# Altium footprint library Connector_FFC-FPC.PcbLib: 184 footprints (part 11 of 12)
Each footprint in its own frame and in the unit in brackets; x right, y up, seen from the top. Pads: shape width x height; smd on the part's side, far side on the other; paste and mask are expansions set on the pad; w line width, h text height; cw(c..) or ccw(c..) is an arc to the next point about the centre after c.
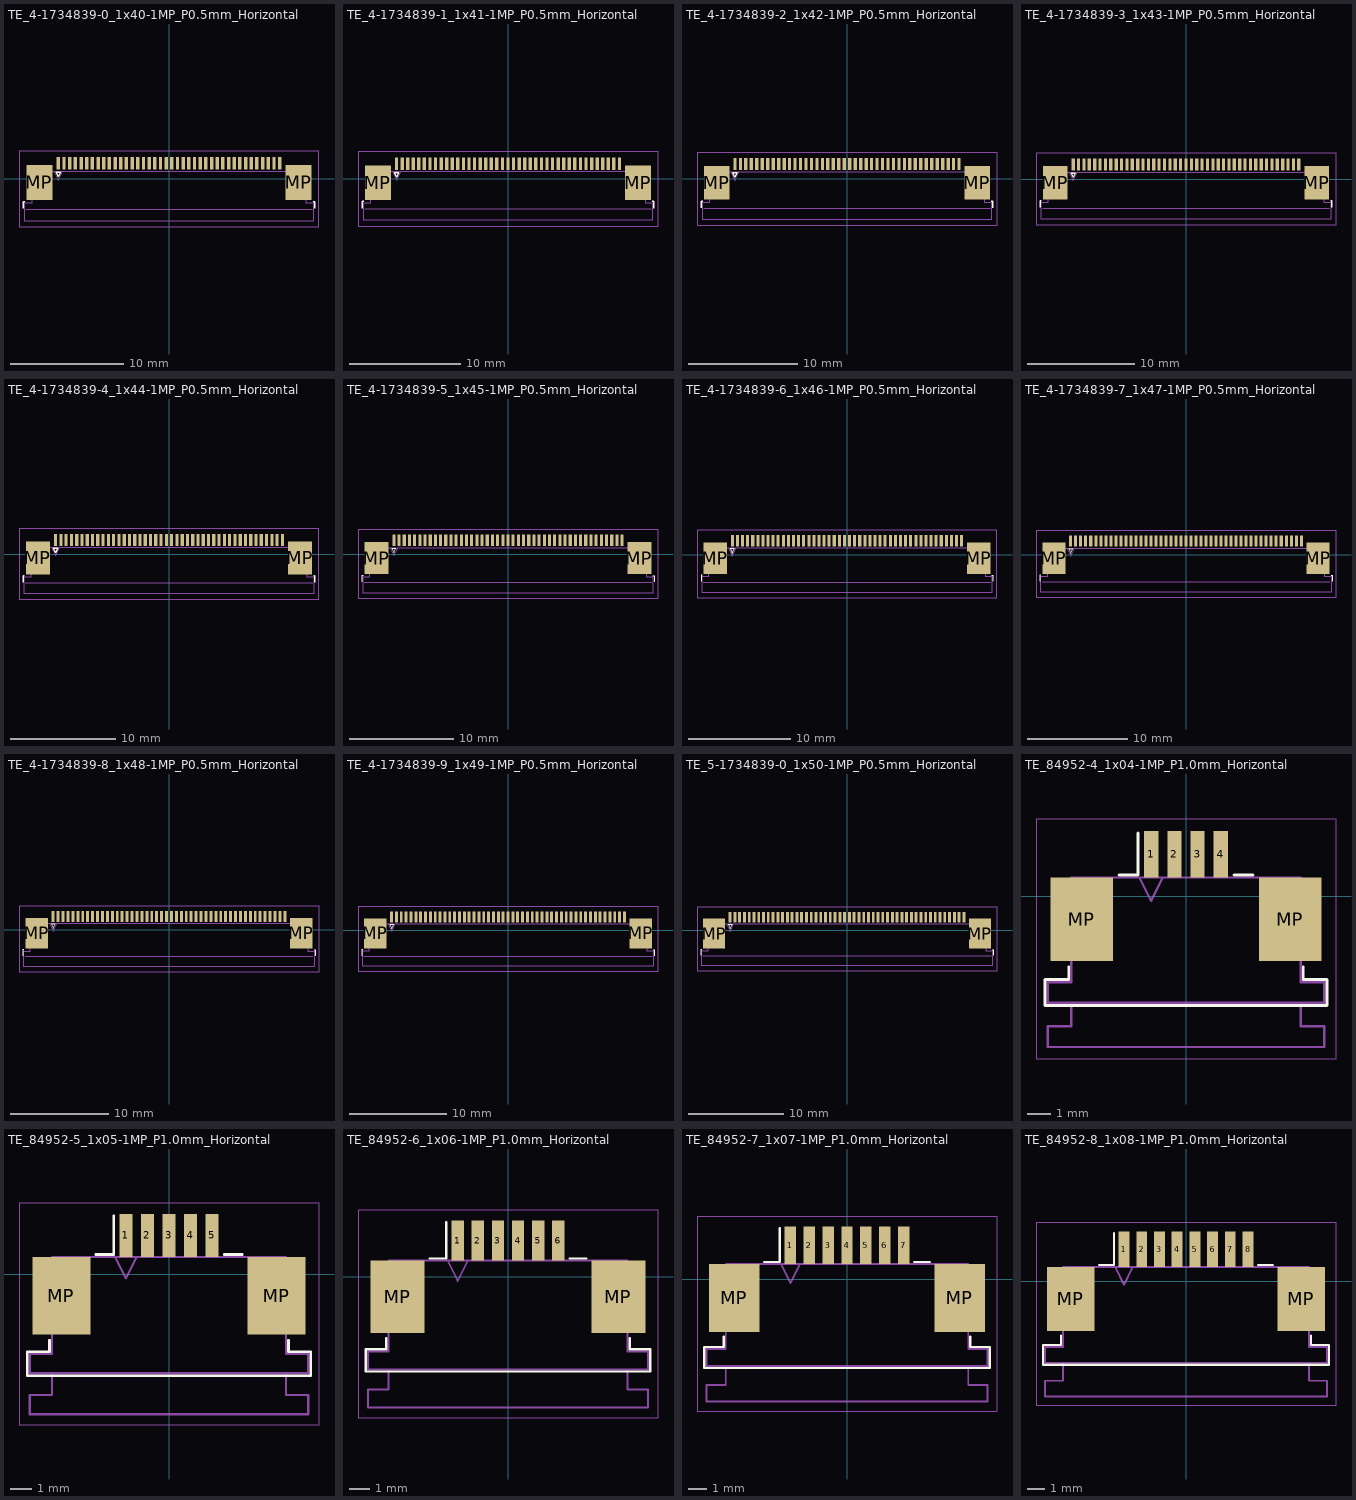
[diagram p10: the footprints below, top view; thin cyan lines are the x and y axes]

## TE_4-1734839-0_1x40-1MP_P0.5mm_Horizontal [mm]
pads (42):
  rect 0.3x1.1 smd: 1(-9.75,1.35) 2(-9.25,1.35) 3(-8.75,1.35) 4(-8.25,1.35) 5(-7.75,1.35) 6(-7.25,1.35) 7(-6.75,1.35) 8(-6.25,1.35) 9(-5.75,1.35) 10(-5.25,1.35) 11(-4.75,1.35) 12(-4.25,1.35) 13(-3.75,1.35) 14(-3.25,1.35) 15(-2.75,1.35) 16(-2.25,1.35) 17(-1.75,1.35) 18(-1.25,1.35) 19(-0.75,1.35) 20(-0.25,1.35) 21(0.25,1.35) 22(0.75,1.35) 23(1.25,1.35) 24(1.75,1.35) 25(2.25,1.35) 26(2.75,1.35) 27(3.25,1.35) 28(3.75,1.35) 29(4.25,1.35) 30(4.75,1.35) 31(5.25,1.35) 32(5.75,1.35) 33(6.25,1.35) 34(6.75,1.35) 35(7.25,1.35) 36(7.75,1.35) 37(8.25,1.35) 38(8.75,1.35) 39(9.25,1.35) 40(9.75,1.35)
  rect 2.3x3.1 smd: MP(-11.42,-0.35) MP(11.42,-0.35)
F.SilkS:
  lines w0.12: -12.825,-2.64 -12.825,-2.04 -12.715,-2.04 ; 12.715,-2.04 12.825,-2.04 12.825,-2.64 ; -9.95,0.55 -9.75,0.15 -9.55,0.55 -9.95,0.55
Dwgs.User:
  lines w0.1: -12.605,-2.75 12.605,-2.75
F.CrtYd:
  lines w0.05: -13.22,-4.25 -13.22,2.4 13.22,2.4 13.22,-4.25 -13.22,-4.25
F.Fab:
  lines w0.1: -10.15,0.65 -9.75,-0.15 -9.35,0.65 ; -12.715,-3.75 12.715,-3.75 12.715,-2.15 12.06,-2.15 12.06,0.65 -12.06,0.65 -12.06,-2.15 -12.715,-2.15 -12.715,-3.75
  text "'.Designator'" at -4.047,-2.39 h1

## TE_4-1734839-1_1x41-1MP_P0.5mm_Horizontal [mm]
pads (43):
  rect 0.3x1.1 smd: 1(-10,1.35) 2(-9.5,1.35) 3(-9,1.35) 4(-8.5,1.35) 5(-8,1.35) 6(-7.5,1.35) 7(-7,1.35) 8(-6.5,1.35) 9(-6,1.35) 10(-5.5,1.35) 11(-5,1.35) 12(-4.5,1.35) 13(-4,1.35) 14(-3.5,1.35) 15(-3,1.35) 16(-2.5,1.35) 17(-2,1.35) 18(-1.5,1.35) 19(-1,1.35) 20(-0.5,1.35) 21(0,1.35) 22(0.5,1.35) 23(1,1.35) 24(1.5,1.35) 25(2,1.35) 26(2.5,1.35) 27(3,1.35) 28(3.5,1.35) 29(4,1.35) 30(4.5,1.35) 31(5,1.35) 32(5.5,1.35) 33(6,1.35) 34(6.5,1.35) 35(7,1.35) 36(7.5,1.35) 37(8,1.35) 38(8.5,1.35) 39(9,1.35) 40(9.5,1.35) 41(10,1.35)
  rect 2.3x3.1 smd: MP(-11.67,-0.35) MP(11.67,-0.35)
F.SilkS:
  lines w0.12: -13.075,-2.64 -13.075,-2.04 -12.965,-2.04 ; 12.965,-2.04 13.075,-2.04 13.075,-2.64 ; -10.2,0.55 -9.8,0.55 -10,0.15 -10.2,0.55
Dwgs.User:
  lines w0.1: -12.855,-2.75 12.855,-2.75
F.CrtYd:
  lines w0.05: -13.46,-4.25 -13.46,2.4 13.46,2.4 13.46,-4.25 -13.46,-4.25
F.Fab:
  lines w0.1: -10.4,0.65 -10,-0.15 -9.6,0.65 ; -12.965,-3.75 -12.965,-2.15 -12.31,-2.15 -12.31,0.65 12.31,0.65 12.31,-2.15 12.965,-2.15 12.965,-3.75 -12.965,-3.75
  text "'.Designator'" at -4.047,-2.39 h1

## TE_4-1734839-2_1x42-1MP_P0.5mm_Horizontal [mm]
pads (44):
  rect 0.3x1.1 smd: 1(-10.25,1.35) 2(-9.75,1.35) 3(-9.25,1.35) 4(-8.75,1.35) 5(-8.25,1.35) 6(-7.75,1.35) 7(-7.25,1.35) 8(-6.75,1.35) 9(-6.25,1.35) 10(-5.75,1.35) 11(-5.25,1.35) 12(-4.75,1.35) 13(-4.25,1.35) 14(-3.75,1.35) 15(-3.25,1.35) 16(-2.75,1.35) 17(-2.25,1.35) 18(-1.75,1.35) 19(-1.25,1.35) 20(-0.75,1.35) 21(-0.25,1.35) 22(0.25,1.35) 23(0.75,1.35) 24(1.25,1.35) 25(1.75,1.35) 26(2.25,1.35) 27(2.75,1.35) 28(3.25,1.35) 29(3.75,1.35) 30(4.25,1.35) 31(4.75,1.35) 32(5.25,1.35) 33(5.75,1.35) 34(6.25,1.35) 35(6.75,1.35) 36(7.25,1.35) 37(7.75,1.35) 38(8.25,1.35) 39(8.75,1.35) 40(9.25,1.35) 41(9.75,1.35) 42(10.25,1.35)
  rect 2.3x3.1 smd: MP(-11.92,-0.35) MP(11.92,-0.35)
F.SilkS:
  lines w0.12: -13.325,-2.64 -13.325,-2.04 -13.215,-2.04 ; 13.215,-2.04 13.325,-2.04 13.325,-2.64 ; -10.45,0.55 -10.05,0.55 -10.25,0.15 -10.45,0.55
Dwgs.User:
  lines w0.1: -13.105,-2.75 13.105,-2.75
F.CrtYd:
  lines w0.05: -13.72,-4.25 13.72,-4.25 13.72,2.4 -13.72,2.4 -13.72,-4.25
F.Fab:
  lines w0.1: -10.65,0.65 -10.25,-0.15 -9.85,0.65 ; -13.215,-3.75 -13.215,-2.15 -12.56,-2.15 -12.56,0.65 12.56,0.65 12.56,-2.15 13.215,-2.15 13.215,-3.75 -13.215,-3.75
  text "'.Designator'" at -4.047,-2.39 h1

## TE_4-1734839-3_1x43-1MP_P0.5mm_Horizontal [mm]
pads (45):
  rect 0.3x1.1 smd: 1(-10.5,1.35) 2(-10,1.35) 3(-9.5,1.35) 4(-9,1.35) 5(-8.5,1.35) 6(-8,1.35) 7(-7.5,1.35) 8(-7,1.35) 9(-6.5,1.35) 10(-6,1.35) 11(-5.5,1.35) 12(-5,1.35) 13(-4.5,1.35) 14(-4,1.35) 15(-3.5,1.35) 16(-3,1.35) 17(-2.5,1.35) 18(-2,1.35) 19(-1.5,1.35) 20(-1,1.35) 21(-0.5,1.35) 22(0,1.35) 23(0.5,1.35) 24(1,1.35) 25(1.5,1.35) 26(2,1.35) 27(2.5,1.35) 28(3,1.35) 29(3.5,1.35) 30(4,1.35) 31(4.5,1.35) 32(5,1.35) 33(5.5,1.35) 34(6,1.35) 35(6.5,1.35) 36(7,1.35) 37(7.5,1.35) 38(8,1.35) 39(8.5,1.35) 40(9,1.35) 41(9.5,1.35) 42(10,1.35) 43(10.5,1.35)
  rect 2.3x3.1 smd: MP(-12.17,-0.35) MP(12.17,-0.35)
F.SilkS:
  lines w0.12: -13.575,-2.64 -13.575,-2.04 -13.465,-2.04 ; 13.465,-2.04 13.575,-2.04 13.575,-2.64 ; -10.7,0.55 -10.3,0.55 -10.5,0.15 -10.7,0.55
Dwgs.User:
  lines w0.1: -13.355,-2.75 13.355,-2.75
F.CrtYd:
  lines w0.05: -13.96,-4.25 13.96,-4.25 13.96,2.4 -13.96,2.4 -13.96,-4.25
F.Fab:
  lines w0.1: -10.9,0.65 -10.5,-0.15 -10.1,0.65 ; -13.465,-3.75 13.465,-3.75 13.465,-2.15 12.81,-2.15 12.81,0.65 -12.81,0.65 -12.81,-2.15 -13.465,-2.15 -13.465,-3.75
  text "'.Designator'" at -4.047,-2.39 h1

## TE_4-1734839-4_1x44-1MP_P0.5mm_Horizontal [mm]
pads (46):
  rect 0.3x1.1 smd: 1(-10.75,1.35) 2(-10.25,1.35) 3(-9.75,1.35) 4(-9.25,1.35) 5(-8.75,1.35) 6(-8.25,1.35) 7(-7.75,1.35) 8(-7.25,1.35) 9(-6.75,1.35) 10(-6.25,1.35) 11(-5.75,1.35) 12(-5.25,1.35) 13(-4.75,1.35) 14(-4.25,1.35) 15(-3.75,1.35) 16(-3.25,1.35) 17(-2.75,1.35) 18(-2.25,1.35) 19(-1.75,1.35) 20(-1.25,1.35) 21(-0.75,1.35) 22(-0.25,1.35) 23(0.25,1.35) 24(0.75,1.35) 25(1.25,1.35) 26(1.75,1.35) 27(2.25,1.35) 28(2.75,1.35) 29(3.25,1.35) 30(3.75,1.35) 31(4.25,1.35) 32(4.75,1.35) 33(5.25,1.35) 34(5.75,1.35) 35(6.25,1.35) 36(6.75,1.35) 37(7.25,1.35) 38(7.75,1.35) 39(8.25,1.35) 40(8.75,1.35) 41(9.25,1.35) 42(9.75,1.35) 43(10.25,1.35) 44(10.75,1.35)
  rect 2.3x3.1 smd: MP(-12.42,-0.35) MP(12.42,-0.35)
F.SilkS:
  lines w0.12: -13.825,-2.64 -13.825,-2.04 -13.715,-2.04 ; 13.715,-2.04 13.825,-2.04 13.825,-2.64 ; -10.95,0.55 -10.75,0.15 -10.55,0.55 -10.95,0.55
Dwgs.User:
  lines w0.1: -13.605,-2.75 13.605,-2.75
F.CrtYd:
  lines w0.05: -14.22,-4.25 -14.22,2.4 14.22,2.4 14.22,-4.25 -14.22,-4.25
F.Fab:
  lines w0.1: -11.15,0.65 -10.75,-0.15 -10.35,0.65 ; -13.715,-3.75 13.715,-3.75 13.715,-2.15 13.06,-2.15 13.06,0.65 -13.06,0.65 -13.06,-2.15 -13.715,-2.15 -13.715,-3.75
  text "'.Designator'" at -4.047,-2.39 h1

## TE_4-1734839-5_1x45-1MP_P0.5mm_Horizontal [mm]
pads (47):
  rect 0.3x1.1 smd: 1(-11,1.35) 2(-10.5,1.35) 3(-10,1.35) 4(-9.5,1.35) 5(-9,1.35) 6(-8.5,1.35) 7(-8,1.35) 8(-7.5,1.35) 9(-7,1.35) 10(-6.5,1.35) 11(-6,1.35) 12(-5.5,1.35) 13(-5,1.35) 14(-4.5,1.35) 15(-4,1.35) 16(-3.5,1.35) 17(-3,1.35) 18(-2.5,1.35) 19(-2,1.35) 20(-1.5,1.35) 21(-1,1.35) 22(-0.5,1.35) 23(0,1.35) 24(0.5,1.35) 25(1,1.35) 26(1.5,1.35) 27(2,1.35) 28(2.5,1.35) 29(3,1.35) 30(3.5,1.35) 31(4,1.35) 32(4.5,1.35) 33(5,1.35) 34(5.5,1.35) 35(6,1.35) 36(6.5,1.35) 37(7,1.35) 38(7.5,1.35) 39(8,1.35) 40(8.5,1.35) 41(9,1.35) 42(9.5,1.35) 43(10,1.35) 44(10.5,1.35) 45(11,1.35)
  rect 2.3x3.1 smd: MP(-12.67,-0.35) MP(12.67,-0.35)
F.SilkS:
  lines w0.12: -14.075,-2.64 -14.075,-2.04 -13.965,-2.04 ; 13.965,-2.04 14.075,-2.04 14.075,-2.64 ; -11.2,0.55 -11,0.15 -10.8,0.55 -11.2,0.55
Dwgs.User:
  lines w0.1: -13.855,-2.75 13.855,-2.75
F.CrtYd:
  lines w0.05: -14.46,-4.25 14.46,-4.25 14.46,2.4 -14.46,2.4 -14.46,-4.25
F.Fab:
  lines w0.1: -11.4,0.65 -11,-0.15 -10.6,0.65 ; -13.965,-3.75 13.965,-3.75 13.965,-2.15 13.31,-2.15 13.31,0.65 -13.31,0.65 -13.31,-2.15 -13.965,-2.15 -13.965,-3.75
  text "'.Designator'" at -4.047,-2.39 h1

## TE_4-1734839-6_1x46-1MP_P0.5mm_Horizontal [mm]
pads (48):
  rect 0.3x1.1 smd: 1(-11.25,1.35) 2(-10.75,1.35) 3(-10.25,1.35) 4(-9.75,1.35) 5(-9.25,1.35) 6(-8.75,1.35) 7(-8.25,1.35) 8(-7.75,1.35) 9(-7.25,1.35) 10(-6.75,1.35) 11(-6.25,1.35) 12(-5.75,1.35) 13(-5.25,1.35) 14(-4.75,1.35) 15(-4.25,1.35) 16(-3.75,1.35) 17(-3.25,1.35) 18(-2.75,1.35) 19(-2.25,1.35) 20(-1.75,1.35) 21(-1.25,1.35) 22(-0.75,1.35) 23(-0.25,1.35) 24(0.25,1.35) 25(0.75,1.35) 26(1.25,1.35) 27(1.75,1.35) 28(2.25,1.35) 29(2.75,1.35) 30(3.25,1.35) 31(3.75,1.35) 32(4.25,1.35) 33(4.75,1.35) 34(5.25,1.35) 35(5.75,1.35) 36(6.25,1.35) 37(6.75,1.35) 38(7.25,1.35) 39(7.75,1.35) 40(8.25,1.35) 41(8.75,1.35) 42(9.25,1.35) 43(9.75,1.35) 44(10.25,1.35) 45(10.75,1.35) 46(11.25,1.35)
  rect 2.3x3.1 smd: MP(-12.92,-0.35) MP(12.92,-0.35)
F.SilkS:
  lines w0.12: -14.325,-2.64 -14.325,-2.04 -14.215,-2.04 ; 14.215,-2.04 14.325,-2.04 14.325,-2.64 ; -11.45,0.55 -11.25,0.15 -11.05,0.55 -11.45,0.55
Dwgs.User:
  lines w0.1: -14.105,-2.75 14.105,-2.75
F.CrtYd:
  lines w0.05: -14.72,-4.25 -14.72,2.4 14.72,2.4 14.72,-4.25 -14.72,-4.25
F.Fab:
  lines w0.1: -11.65,0.65 -11.25,-0.15 -10.85,0.65 ; -14.215,-3.75 -14.215,-2.15 -13.56,-2.15 -13.56,0.65 13.56,0.65 13.56,-2.15 14.215,-2.15 14.215,-3.75 -14.215,-3.75
  text "'.Designator'" at -4.047,-2.39 h1

## TE_4-1734839-7_1x47-1MP_P0.5mm_Horizontal [mm]
pads (49):
  rect 0.3x1.1 smd: 1(-11.5,1.35) 2(-11,1.35) 3(-10.5,1.35) 4(-10,1.35) 5(-9.5,1.35) 6(-9,1.35) 7(-8.5,1.35) 8(-8,1.35) 9(-7.5,1.35) 10(-7,1.35) 11(-6.5,1.35) 12(-6,1.35) 13(-5.5,1.35) 14(-5,1.35) 15(-4.5,1.35) 16(-4,1.35) 17(-3.5,1.35) 18(-3,1.35) 19(-2.5,1.35) 20(-2,1.35) 21(-1.5,1.35) 22(-1,1.35) 23(-0.5,1.35) 24(0,1.35) 25(0.5,1.35) 26(1,1.35) 27(1.5,1.35) 28(2,1.35) 29(2.5,1.35) 30(3,1.35) 31(3.5,1.35) 32(4,1.35) 33(4.5,1.35) 34(5,1.35) 35(5.5,1.35) 36(6,1.35) 37(6.5,1.35) 38(7,1.35) 39(7.5,1.35) 40(8,1.35) 41(8.5,1.35) 42(9,1.35) 43(9.5,1.35) 44(10,1.35) 45(10.5,1.35) 46(11,1.35) 47(11.5,1.35)
  rect 2.3x3.1 smd: MP(-13.17,-0.35) MP(13.17,-0.35)
F.SilkS:
  lines w0.12: -14.575,-2.64 -14.575,-2.04 -14.465,-2.04 ; 14.465,-2.04 14.575,-2.04 14.575,-2.64 ; -11.7,0.55 -11.3,0.55 -11.5,0.15 -11.7,0.55
Dwgs.User:
  lines w0.1: -14.355,-2.75 14.355,-2.75
F.CrtYd:
  lines w0.05: -14.96,-4.25 -14.96,2.4 14.96,2.4 14.96,-4.25 -14.96,-4.25
F.Fab:
  lines w0.1: -11.9,0.65 -11.5,-0.15 -11.1,0.65 ; -14.465,-3.75 14.465,-3.75 14.465,-2.15 13.81,-2.15 13.81,0.65 -13.81,0.65 -13.81,-2.15 -14.465,-2.15 -14.465,-3.75
  text "'.Designator'" at -4.047,-2.39 h1

## TE_4-1734839-8_1x48-1MP_P0.5mm_Horizontal [mm]
pads (50):
  rect 0.3x1.1 smd: 1(-11.75,1.35) 2(-11.25,1.35) 3(-10.75,1.35) 4(-10.25,1.35) 5(-9.75,1.35) 6(-9.25,1.35) 7(-8.75,1.35) 8(-8.25,1.35) 9(-7.75,1.35) 10(-7.25,1.35) 11(-6.75,1.35) 12(-6.25,1.35) 13(-5.75,1.35) 14(-5.25,1.35) 15(-4.75,1.35) 16(-4.25,1.35) 17(-3.75,1.35) 18(-3.25,1.35) 19(-2.75,1.35) 20(-2.25,1.35) 21(-1.75,1.35) 22(-1.25,1.35) 23(-0.75,1.35) 24(-0.25,1.35) 25(0.25,1.35) 26(0.75,1.35) 27(1.25,1.35) 28(1.75,1.35) 29(2.25,1.35) 30(2.75,1.35) 31(3.25,1.35) 32(3.75,1.35) 33(4.25,1.35) 34(4.75,1.35) 35(5.25,1.35) 36(5.75,1.35) 37(6.25,1.35) 38(6.75,1.35) 39(7.25,1.35) 40(7.75,1.35) 41(8.25,1.35) 42(8.75,1.35) 43(9.25,1.35) 44(9.75,1.35) 45(10.25,1.35) 46(10.75,1.35) 47(11.25,1.35) 48(11.75,1.35)
  rect 2.3x3.1 smd: MP(-13.42,-0.35) MP(13.42,-0.35)
F.SilkS:
  lines w0.12: -14.825,-2.64 -14.825,-2.04 -14.715,-2.04 ; 14.715,-2.04 14.825,-2.04 14.825,-2.64 ; -11.95,0.55 -11.55,0.55 -11.75,0.15 -11.95,0.55
Dwgs.User:
  lines w0.1: -14.605,-2.75 14.605,-2.75
F.CrtYd:
  lines w0.05: -15.22,-4.25 15.22,-4.25 15.22,2.4 -15.22,2.4 -15.22,-4.25
F.Fab:
  lines w0.1: -12.15,0.65 -11.75,-0.15 -11.35,0.65 ; -14.715,-3.75 14.715,-3.75 14.715,-2.15 14.06,-2.15 14.06,0.65 -14.06,0.65 -14.06,-2.15 -14.715,-2.15 -14.715,-3.75
  text "'.Designator'" at -4.047,-2.39 h1

## TE_4-1734839-9_1x49-1MP_P0.5mm_Horizontal [mm]
pads (51):
  rect 0.3x1.1 smd: 1(-12,1.35) 2(-11.5,1.35) 3(-11,1.35) 4(-10.5,1.35) 5(-10,1.35) 6(-9.5,1.35) 7(-9,1.35) 8(-8.5,1.35) 9(-8,1.35) 10(-7.5,1.35) 11(-7,1.35) 12(-6.5,1.35) 13(-6,1.35) 14(-5.5,1.35) 15(-5,1.35) 16(-4.5,1.35) 17(-4,1.35) 18(-3.5,1.35) 19(-3,1.35) 20(-2.5,1.35) 21(-2,1.35) 22(-1.5,1.35) 23(-1,1.35) 24(-0.5,1.35) 25(0,1.35) 26(0.5,1.35) 27(1,1.35) 28(1.5,1.35) 29(2,1.35) 30(2.5,1.35) 31(3,1.35) 32(3.5,1.35) 33(4,1.35) 34(4.5,1.35) 35(5,1.35) 36(5.5,1.35) 37(6,1.35) 38(6.5,1.35) 39(7,1.35) 40(7.5,1.35) 41(8,1.35) 42(8.5,1.35) 43(9,1.35) 44(9.5,1.35) 45(10,1.35) 46(10.5,1.35) 47(11,1.35) 48(11.5,1.35) 49(12,1.35)
  rect 2.3x3.1 smd: MP(-13.67,-0.35) MP(13.67,-0.35)
F.SilkS:
  lines w0.12: -15.075,-2.64 -15.075,-2.04 -14.965,-2.04 ; 14.965,-2.04 15.075,-2.04 15.075,-2.64 ; -12.2,0.55 -11.8,0.55 -12,0.15 -12.2,0.55
Dwgs.User:
  lines w0.1: -14.855,-2.75 14.855,-2.75
F.CrtYd:
  lines w0.05: -15.46,-4.25 15.46,-4.25 15.46,2.4 -15.46,2.4 -15.46,-4.25
F.Fab:
  lines w0.1: -12.4,0.65 -12,-0.15 -11.6,0.65 ; -14.965,-3.75 -14.965,-2.15 -14.31,-2.15 -14.31,0.65 14.31,0.65 14.31,-2.15 14.965,-2.15 14.965,-3.75 -14.965,-3.75
  text "'.Designator'" at -4.047,-2.39 h1

## TE_5-1734839-0_1x50-1MP_P0.5mm_Horizontal [mm]
pads (52):
  rect 0.3x1.1 smd: 1(-12.25,1.35) 2(-11.75,1.35) 3(-11.25,1.35) 4(-10.75,1.35) 5(-10.25,1.35) 6(-9.75,1.35) 7(-9.25,1.35) 8(-8.75,1.35) 9(-8.25,1.35) 10(-7.75,1.35) 11(-7.25,1.35) 12(-6.75,1.35) 13(-6.25,1.35) 14(-5.75,1.35) 15(-5.25,1.35) 16(-4.75,1.35) 17(-4.25,1.35) 18(-3.75,1.35) 19(-3.25,1.35) 20(-2.75,1.35) 21(-2.25,1.35) 22(-1.75,1.35) 23(-1.25,1.35) 24(-0.75,1.35) 25(-0.25,1.35) 26(0.25,1.35) 27(0.75,1.35) 28(1.25,1.35) 29(1.75,1.35) 30(2.25,1.35) 31(2.75,1.35) 32(3.25,1.35) 33(3.75,1.35) 34(4.25,1.35) 35(4.75,1.35) 36(5.25,1.35) 37(5.75,1.35) 38(6.25,1.35) 39(6.75,1.35) 40(7.25,1.35) 41(7.75,1.35) 42(8.25,1.35) 43(8.75,1.35) 44(9.25,1.35) 45(9.75,1.35) 46(10.25,1.35) 47(10.75,1.35) 48(11.25,1.35) 49(11.75,1.35) 50(12.25,1.35)
  rect 2.3x3.1 smd: MP(-13.92,-0.35) MP(13.92,-0.35)
F.SilkS:
  lines w0.12: -15.325,-2.64 -15.325,-2.04 -15.215,-2.04 ; 15.215,-2.04 15.325,-2.04 15.325,-2.64 ; -12.45,0.55 -12.05,0.55 -12.25,0.15 -12.45,0.55
Dwgs.User:
  lines w0.1: -15.105,-2.75 15.105,-2.75
F.CrtYd:
  lines w0.05: -15.72,-4.25 -15.72,2.4 15.72,2.4 15.72,-4.25 -15.72,-4.25
F.Fab:
  lines w0.1: -12.65,0.65 -12.25,-0.15 -11.85,0.65 ; -15.215,-3.75 -15.215,-2.15 -14.56,-2.15 -14.56,0.65 14.56,0.65 14.56,-2.15 15.215,-2.15 15.215,-3.75 -15.215,-3.75
  text "'.Designator'" at -4.047,-2.39 h1

## TE_84952-4_1x04-1MP_P1.0mm_Horizontal [mm]
pads (6):
  rect 0.61x2 smd: 1(-1.5,1.8) 2(-0.5,1.8) 3(0.5,1.8) 4(1.5,1.8)
  rect 2.68x3.6 smd: MP(-4.49,-1) MP(4.49,-1)
F.SilkS:
  lines w0.12: -5.045,-3.06 -5.045,-3.6 -6.07,-3.6 -6.07,-4.71 6.07,-4.71 6.07,-3.6 5.045,-3.6 5.045,-3.06 ; -2.89,0.91 -2.065,0.91 -2.065,2.71 ; 2.065,0.91 2.89,0.91
F.CrtYd:
  lines w0.05: -6.46,-7 -6.46,3.3 6.46,3.3 6.46,-7 -6.46,-7
F.Fab:
  lines w0.1: -4.935,-4.6 -4.935,-5.61 -5.96,-5.61 -5.96,-6.5 5.96,-6.5 5.96,-5.61 4.935,-5.61 4.935,-4.6 ; -2,0.8 -1.5,-0.2 -1,0.8 ; -5.96,-4.6 -5.96,-3.71 -4.935,-3.71 -4.935,0.8 4.935,0.8 4.935,-3.71 5.96,-3.71 5.96,-4.6 -5.96,-4.6
  text "'.Designator'" at -4.047,-2.74 h1

## TE_84952-5_1x05-1MP_P1.0mm_Horizontal [mm]
pads (7):
  rect 0.61x2 smd: 1(-2,1.8) 2(-1,1.8) 3(0,1.8) 4(1,1.8) 5(2,1.8)
  rect 2.68x3.6 smd: MP(-4.99,-1) MP(4.99,-1)
F.SilkS:
  lines w0.12: -5.545,-3.06 -5.545,-3.6 -6.57,-3.6 -6.57,-4.71 6.57,-4.71 6.57,-3.6 5.545,-3.6 5.545,-3.06 ; -3.39,0.91 -2.565,0.91 -2.565,2.71 ; 2.565,0.91 3.39,0.91
F.CrtYd:
  lines w0.05: -6.96,-7 6.96,-7 6.96,3.3 -6.96,3.3 -6.96,-7
F.Fab:
  lines w0.1: -5.435,-4.6 -5.435,-5.61 -6.46,-5.61 -6.46,-6.5 6.46,-6.5 6.46,-5.61 5.435,-5.61 5.435,-4.6 ; -2.5,0.8 -2,-0.2 -1.5,0.8 ; -6.46,-4.6 6.46,-4.6 6.46,-3.71 5.435,-3.71 5.435,0.8 -5.435,0.8 -5.435,-3.71 -6.46,-3.71 -6.46,-4.6
  text "'.Designator'" at -4.047,-2.74 h1

## TE_84952-6_1x06-1MP_P1.0mm_Horizontal [mm]
pads (8):
  rect 0.61x2 smd: 1(-2.5,1.8) 2(-1.5,1.8) 3(-0.5,1.8) 4(0.5,1.8) 5(1.5,1.8) 6(2.5,1.8)
  rect 2.68x3.6 smd: MP(-5.49,-1) MP(5.49,-1)
F.SilkS:
  lines w0.12: -6.045,-3.06 -6.045,-3.6 -7.07,-3.6 -7.07,-4.71 7.07,-4.71 7.07,-3.6 6.045,-3.6 6.045,-3.06 ; -3.89,0.91 -3.065,0.91 -3.065,2.71 ; 3.065,0.91 3.89,0.91
F.CrtYd:
  lines w0.05: -7.46,-7 -7.46,3.3 7.46,3.3 7.46,-7 -7.46,-7
F.Fab:
  lines w0.1: -5.935,-4.6 -5.935,-5.61 -6.96,-5.61 -6.96,-6.5 6.96,-6.5 6.96,-5.61 5.935,-5.61 5.935,-4.6 ; -3,0.8 -2.5,-0.2 -2,0.8 ; -6.96,-4.6 -6.96,-3.71 -5.935,-3.71 -5.935,0.8 5.935,0.8 5.935,-3.71 6.96,-3.71 6.96,-4.6 -6.96,-4.6
  text "'.Designator'" at -4.047,-2.74 h1

## TE_84952-7_1x07-1MP_P1.0mm_Horizontal [mm]
pads (9):
  rect 0.61x2 smd: 1(-3,1.8) 2(-2,1.8) 3(-1,1.8) 4(0,1.8) 5(1,1.8) 6(2,1.8) 7(3,1.8)
  rect 2.68x3.6 smd: MP(-5.99,-1) MP(5.99,-1)
F.SilkS:
  lines w0.12: -6.545,-3.06 -6.545,-3.6 -7.57,-3.6 -7.57,-4.71 7.57,-4.71 7.57,-3.6 6.545,-3.6 6.545,-3.06 ; -4.39,0.91 -3.565,0.91 -3.565,2.71 ; 3.565,0.91 4.39,0.91
F.CrtYd:
  lines w0.05: -7.96,-7 -7.96,3.3 7.96,3.3 7.96,-7 -7.96,-7
F.Fab:
  lines w0.1: -6.435,-4.6 -6.435,-5.61 -7.46,-5.61 -7.46,-6.5 7.46,-6.5 7.46,-5.61 6.435,-5.61 6.435,-4.6 ; -3.5,0.8 -3,-0.2 -2.5,0.8 ; -7.46,-4.6 -7.46,-3.71 -6.435,-3.71 -6.435,0.8 6.435,0.8 6.435,-3.71 7.46,-3.71 7.46,-4.6 -7.46,-4.6
  text "'.Designator'" at -4.047,-2.74 h1

## TE_84952-8_1x08-1MP_P1.0mm_Horizontal [mm]
pads (10):
  rect 0.61x2 smd: 1(-3.5,1.8) 2(-2.5,1.8) 3(-1.5,1.8) 4(-0.5,1.8) 5(0.5,1.8) 6(1.5,1.8) 7(2.5,1.8) 8(3.5,1.8)
  rect 2.68x3.6 smd: MP(-6.49,-1) MP(6.49,-1)
F.SilkS:
  lines w0.12: -7.045,-3.06 -7.045,-3.6 -8.07,-3.6 -8.07,-4.71 8.07,-4.71 8.07,-3.6 7.045,-3.6 7.045,-3.06 ; -4.89,0.91 -4.065,0.91 -4.065,2.71 ; 4.065,0.91 4.89,0.91
F.CrtYd:
  lines w0.05: -8.46,-7 8.46,-7 8.46,3.3 -8.46,3.3 -8.46,-7
F.Fab:
  lines w0.1: -6.935,-4.6 -6.935,-5.61 -7.96,-5.61 -7.96,-6.5 7.96,-6.5 7.96,-5.61 6.935,-5.61 6.935,-4.6 ; -4,0.8 -3.5,-0.2 -3,0.8 ; -7.96,-4.6 -7.96,-3.71 -6.935,-3.71 -6.935,0.8 6.935,0.8 6.935,-3.71 7.96,-3.71 7.96,-4.6 -7.96,-4.6
  text "'.Designator'" at -4.047,-2.74 h1